# EAGLE library part SSM2019 (library opamps)
SSM2019: Audio preamplifier (Analog Devices) ±15V, ±50mA, 10µA bias 250µV offset, 2-200MHz UGF, 1-50nV/rt(Hz) noise
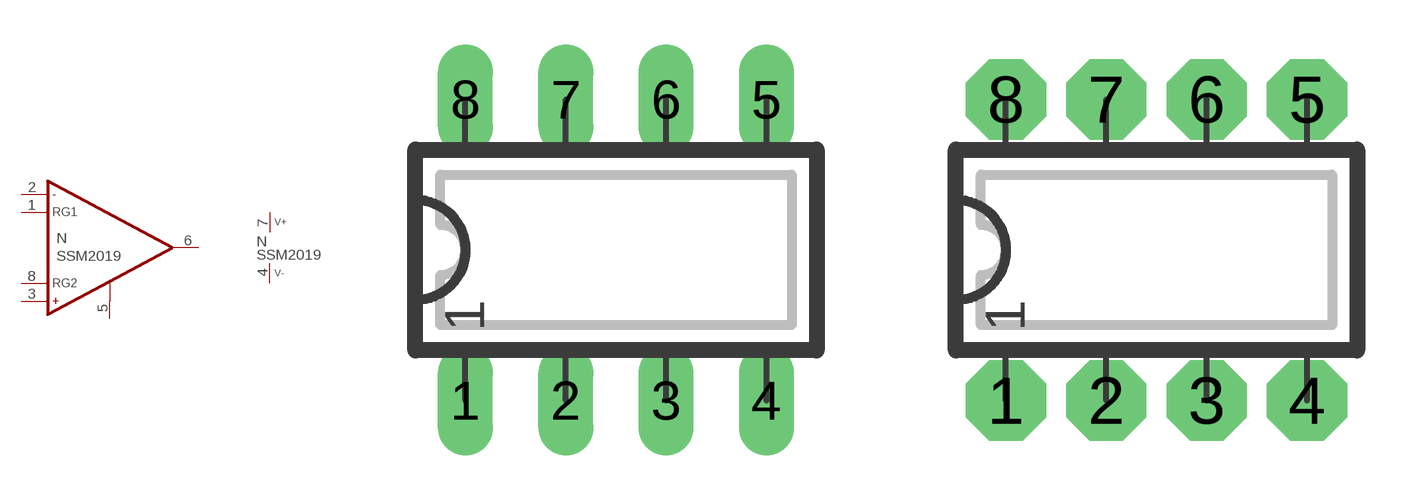
[diagram p266: symbol with the pads of DIP08L; footprints DIP08L, DIP08N]

Designator prefix N; gates A=INA_2 P=V+-

## SSM2019  [DIP08L]
1  A:RG1
2  A:OP-  in
3  A:OP+  in
4  P:V-  pwr
5  A:REF  in
6  A:OPO  out
7  P:V+  pwr
8  A:RG2

## SSM2019L  [DIP08L]
Pads as for DIP08L

## SSM2019N  [DIP08N]
Pads as for DIP08L

## SSM2019R  [DIP08R]
Pads as for DIP08L

## Footprint DIP08L (pad centres in mm)
DIP-8, long pads Standard IC package, 8 pins
drill 0.813 pad 1.397 long: 1 -3.81,-3.81; 2 -1.27,-3.81; 3 1.27,-3.81; 4 3.81,-3.81; 5 3.81,3.81; 6 1.27,3.81; 7 -1.27,3.81; 8 -3.81,3.81

## Footprint DIP08N (pad centres in mm)
DIP-8 Standard IC package, 8 pins
drill 0.813 pad 2.032 octagon: 1 -3.81,-3.81; 2 -1.27,-3.81; 3 1.27,-3.81; 4 3.81,-3.81; 5 3.81,3.81; 6 1.27,3.81; 7 -1.27,3.81; 8 -3.81,3.81

## Footprint DIP08R (pad centres in mm)
DIP-8, reduced pads Standard IC package, 8 pins
drill 0.813 pad 1.397 square: 1 -3.81,-3.81; 2 -1.27,-3.81; 3 1.27,-3.81; 4 3.81,-3.81; 5 3.81,3.81; 6 1.27,3.81; 7 -1.27,3.81; 8 -3.81,3.81